# Altium footprint library Cypss5131_CY4603.PcbLib: 41 footprints (part 3 of 3)
Each footprint in its own frame and in the unit in brackets; x right, y up, seen from the top. Pads: shape width x height; smd on the part's side, far side on the other; paste and mask are expansions set on the pad; w line width, h text height; cw(c..) or ccw(c..) is an arc to the next point about the centre after c.
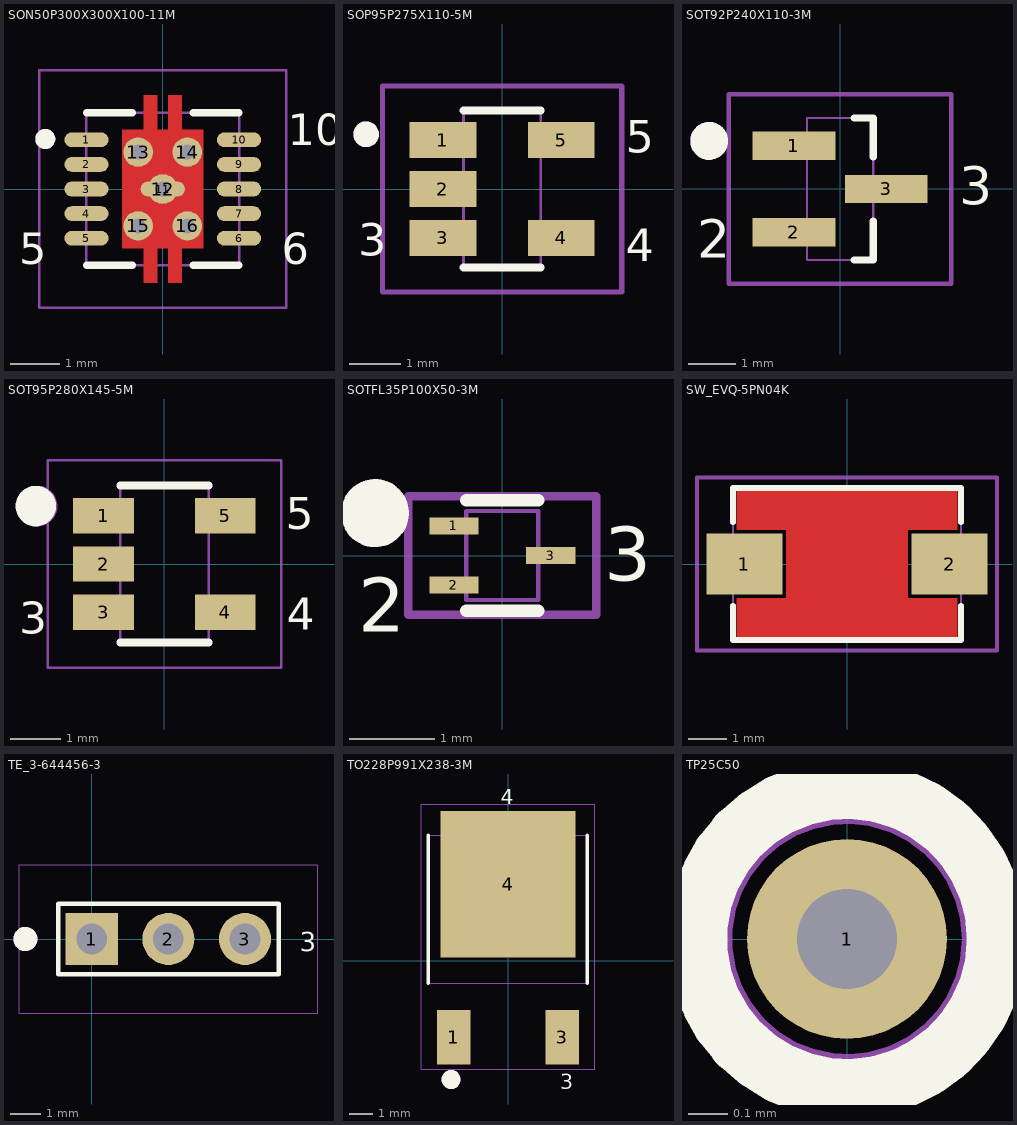
[diagram p2: the footprints below, top view; thin cyan lines are the x and y axes]

## SON50P300X300X100-11M [mm]
height 1
pads (16):
  oval 0.9x0.3 smd mask+0: 1(-1.55,1) 2(-1.55,0.5) 3(-1.55,0) 4(-1.55,-0.5) 5(-1.55,-1) 6(1.55,-1) 7(1.55,-0.5) 8(1.55,0) 9(1.55,0.5) 10(1.55,1) 11(0,0)
  round 0.6 hole 0.3 mask+0: 12(0,0) 13(-0.5,0.75) 14(0.5,0.75) 15(-0.5,-0.75) 16(0.5,-0.75)
Top Layer:
  region: 0.825,-1.2 0.825,1.2 0.39,1.2 0.39,1.9 0.11,1.9 0.11,1.2 -0.11,1.2 -0.11,1.9 -0.39,1.9 -0.39,1.2 -0.825,1.2 -0.825,-1.2 -0.39,-1.2 -0.39,-1.9 -0.11,-1.9 -0.11,-1.2 0.11,-1.2 0.11,-1.9 0.39,-1.9 0.39,-1.2
Top Overlay:
  circle w0.203: c-2.388,1.016 r0.102
  lines w0.15: -1.55,-1.55 -0.615,-1.55 ; -1.55,1.55 -0.615,1.55 ; 0.615,-1.55 1.55,-1.55 ; 0.615,1.55 1.55,1.55
  text "10" at 2.54,0.889 h0.64
  text "6" at 2.413,-1.524 h0.64
  text "5" at -2.921,-1.524 h0.64
Top Paste:
  region: -0.11,0.11 -0.79,0.11 -0.79,1.16 -0.11,1.16
  region: 0.79,0.11 0.11,0.11 0.11,1.16 0.79,1.16
  region: -0.11,-1.16 -0.79,-1.16 -0.79,-0.11 -0.11,-0.11
  region: 0.79,-1.16 0.11,-1.16 0.11,-0.11 0.79,-0.11
  region: 0.12,-1.88 0.38,-1.88 0.38,-1.38 0.12,-1.38
  region: -0.38,-1.88 -0.12,-1.88 -0.12,-1.38 -0.38,-1.38
  region: -0.38,1.38 -0.12,1.38 -0.12,1.88 -0.38,1.88
  region: 0.12,1.38 0.38,1.38 0.38,1.88 0.12,1.88
  region: 0.825,-1.2 0.825,1.2 0.39,1.2 0.39,1.9 0.11,1.9 0.11,1.2 -0.11,1.2 -0.11,1.9 -0.39,1.9 -0.39,1.2 -0.825,1.2 -0.825,-1.2 -0.39,-1.2 -0.39,-1.9 -0.11,-1.9 -0.11,-1.2 0.11,-1.2 0.11,-1.9 0.39,-1.9 0.39,-1.2
Top Solder:
  region: 0.825,-1.2 0.825,1.2 0.39,1.2 0.39,1.9 0.11,1.9 0.11,1.2 -0.11,1.2 -0.11,1.9 -0.39,1.9 -0.39,1.2 -0.825,1.2 -0.825,-1.2 -0.39,-1.2 -0.39,-1.9 -0.11,-1.9 -0.11,-1.2 0.11,-1.2 0.11,-1.9 0.39,-1.9 0.39,-1.2
Mechanical 13:
  circle w0.203: c-2.388,1.016 r0.102
  lines w0.05: -1.55,-1.55 -1.55,1.55 1.55,1.55 1.55,-1.55 -1.55,-1.55
Mechanical 14:
  text "VIA60-30-85" at -3.077,-5.298 h0.64
  text "SON50P300X300X100-11M" at -5.625,2.95 h0.64
  text "B90_30" at -1.419,-3.268 h0.64
  text "U165_380" at -1.934,-4.282 h0.64
Mechanical 15:
  lines w0.051: -2.51,-2.41 -2.51,2.41 2.51,2.41 2.51,-2.41 -2.51,-2.41
3D body: height 1, standoff 0, extent -1.549,-1.549 1.549,1.549

## SOP95P275X110-5M [mm] "SOT23, 5-Leads, Body 3.0x3.0mm (max), Pitch 0.95mm, IPC Low Density"
height 1.1
pads (5):
  rect 1.3x0.7 smd mask+0: 1(-1.15,0.95) 2(-1.15,0) 3(-1.15,-0.95) 4(1.15,-0.95) 5(1.15,0.95)
Top Overlay:
  circle w0.25: c-2.641,1.062 r0.125
  lines w0.15: -0.75,-1.525 0.75,-1.525 ; -0.75,1.525 0.75,1.525
  text "5" at 2.4,0.7 h0.63
  text "4" at 2.4,-1.4 h0.63
  text "3" at -2.8,-1.3 h0.63
  text ".Designator" at -4.374,2.471 h0.8
Mechanical 13:
  circle w0.25: c-2.641,1.062 r0.125
  lines w0.05: -0.75,-1.5 0.75,-1.5 0.75,1.5 -0.75,1.5 -0.75,-1.5
  text ".Designator" at -4.374,-0.183 h0.8
Mechanical 14:
  text "R130_70" at -2.653,-3.368 h0.8
  text "SOP95P275X110-5M" at -6.246,3.825 h0.8
Mechanical 15:
  lines w0.1: -2.325,-2 2.325,-2 2.325,2 -2.325,2 -2.325,-2
3D body: height 1.1, standoff 0.01, extent -0.75,-1.5 0.75,1.5

## SOT92P240X110-3M [mm] "SOT23, 3-Leads, Body 3.0x2.5mm (max), Pitch 0.92mm, IPC Low Density"
height 1.1
pads (3):
  rect 1.75x0.6 smd mask+0: 1(-0.975,0.915) 2(-0.975,-0.915) 3(0.975,0)
Top Overlay:
  circle w0.4: c-2.765,1.016 r0.2
  lines w0.152: 0.3,-1.5 0.7,-1.5 0.7,-0.676 ; 0.3,1.5 0.7,1.5 0.7,0.676
  text ".Designator" at -3.106,2.464 h0.64
  text "2" at -3.023,-1.448 h0.8
  text "3" at 2.515,-0.33 h0.8
Mechanical 13:
  circle w0.4: c-2.765,1.016 r0.2
  lines w0.05: -0.7,-1.5 0.7,-1.5 0.7,1.5 -0.7,1.5 -0.7,-1.5
  text ".Designator" at -3.547,-0.134 h0.64
Mechanical 14:
  text "R60_175" at -2.572,-4.08 h0.64
  text "SOT92P240X110-3M" at -5.791,4.166 h0.8
Mechanical 15:
  lines w0.1: -2.35,-2 2.35,-2 2.35,2 -2.35,2 -2.35,-2
3D body: height 1.1, standoff 0.1, extent -0.7,-1.5 0.7,1.5

## SOT95P280X145-5M [mm] "SOT23, 5-Leads, Body 3.1x2.8mm (max), Pitch 0.95mm, IPC Low Density"
height 1.45
pads (5):
  rect 1.2x0.7 smd mask+0: 1(-1.2,0.95) 2(-1.2,0) 3(-1.2,-0.95) 4(1.2,-0.95) 5(1.2,0.95)
Top Overlay:
  circle w0.4: c-2.537,1.143 r0.2
  lines w0.152: -0.875,-1.55 0.875,-1.55 ; -0.875,1.55 0.875,1.55
  text "5" at 2.388,0.686 h0.64
  text "4" at 2.413,-1.295 h0.64
  text "3" at -2.87,-1.372 h0.64
  text ".Designator" at -2.979,2.54 h0.64
Mechanical 13:
  lines w0.05: -0.875,-1.55 0.875,-1.55 0.875,1.55 -0.875,1.55 -0.875,-1.55
  lines w0.4: -2.311,1.143 cw(c-2.511,1.143) -2.312,1.154
  text ".Designator" at -3.191,-0.261 h0.64
Mechanical 14:
  text "R70_120" at -1.981,-3.353 h0.64
  text "SOT95P280X145-5M" at -6.02,3.988 h0.8
Mechanical 15:
  lines w0.05: -2.3,-2.05 2.3,-2.05 2.3,2.05 -2.3,2.05 -2.3,-2.05
3D body: height 1.45, standoff 0.15, extent -0.875,-1.55 0.875,1.55

## SOTFL35P100X50-3M [mm]
height 0.5
pads (3):
  rect 0.58x0.2 smd mask+0: 1(-0.57,0.35) 2(-0.57,-0.35) 3(0.57,0)
Top Overlay:
  circle w0.4: c-1.5,0.5 r0.2
  lines w0.15: -0.425,-0.65 0.425,-0.65 ; -0.425,0.65 0.425,0.65
  text "3" at 1.2,-0.3 h0.64
  text "2" at -1.7,-0.9 h0.64
  text ".Designator" at -4.013,1.196 h0.8
Mechanical 13:
  circle w0.4: c-1.5,0.5 r0.2
  lines w0.05: -0.425,-0.525 -0.425,0.525 0.425,0.525 0.425,-0.525 -0.425,-0.525
  text ".Designator" at -4,-0.4 h0.8
Mechanical 14:
  text "R58_20" at -2.667,-1.956 h0.8
  text "SOTFL35P100X50-3M" at -6.8,2.2 h0.8
Mechanical 15:
  lines w0.1: -1.11,-0.7 -1.11,0.7 1.11,0.7 1.11,-0.7 -1.11,-0.7
3D body: height 0.5, standoff 0, extent -0.45,-0.55 0.45,0.55

## SW_EVQ-5PN04K [mm]
height 4.3
pads (2):
  rect 2x1.6 smd mask+0: 1(-2.7,0) 2(2.7,0)
Top Layer:
  region: -2.9,2 -2.9,0.9 -1.6,0.9 -1.6,-0.9 -2.9,-0.9 -2.9,-2 2.9,-2 2.9,-0.9 1.6,-0.9 1.6,0.9 2.9,0.9 2.9,2
Top Overlay:
  lines w0.15: -3,-1.1 -3,-2 3,-2 3,-1.1 ; -3,1.1 -3,2 3,2 3,1.1
  text ".Designator" at -3.957,2.767 h0.8
Mechanical 13:
  lines w0.05: -3,-2 -3,2 3,2 3,-2 -3,-2
  text ".Designator" at -3.706,-0.27 h0.8
Mechanical 14:
  text "SW_EVQ-5PN04K" at -4.7,4.125 h0.8
  text "R200_160" at -3.025,-3.4 h0.8
Mechanical 15:
  lines w0.1: -3.95,-2.275 3.95,-2.275 3.95,2.275 -3.95,2.275 -3.95,-2.275
3D body: height 4.3, standoff 0, extent -2.999,-1.999 2.999,1.999

## TE_3-644456-3 [mil]
height 405
pads (3):
  rect 68x68 / inner round 68 / far side rect 68x68 hole 40 mask+0: 1(0,0)
  round 68 hole 40 mask+0: 2(100,0) 3(200,0)
Top Overlay:
  circle w15.75: c-86.61,0 r7.87
  lines w6: -44,-46 -44,46 244,46 244,-46 -44,-46
  text ".Designator" at -53.61,119.3 h31.5
  text "3" at 271.65,-15.75 h25
Mechanical 13:
  circle w15.75: c-86.61,0 r7.87
  lines w2: -44,-46 244,-46 244,46 -44,46 -44,-46
  text ".Designator" at -58.55,-3.31 h31.5
Mechanical 14:
  text "C172H102" at 7.7,-146.12 h31.5
  text "TE_3-644456-3" at -97.78,172.86 h31.5
  text "S172H102" at 7.7,-194.12 h31.5
Mechanical 15:
  lines w1: -95,-97 -95,97 295,97 295,-97 -95,-97
3D body: height 405, standoff 0, extent -45,-47 245,47

## TO228P991X238-3M [mil]
height 94
pads (3):
  rect 55x90 smd mask+0: 1(-90,-126.75) 3(90,-126.75)
  rect 224x243 smd mask+0: 4(0,126.75)
Top Overlay:
  circle w15.75: c-94.49,-196.85 r7.87
  lines w6: -132.5,-37.13 -132.5,207.87 ; 131.5,-37.13 131.5,207.87
  text "4" at -11.81,259.84 h25
  text "3" at 86.61,-212.6 h25
  text ".Designator" at -153.65,288.66 h31.5
Mechanical 13:
  circle w15.75: c-94.49,-196.85 r7.87
  lines w2: -132.5,-37.13 132.5,-37.13 132.5,207.87 -132.5,207.87 -132.5,-37.13
  text ".Designator" at -163.96,47.4 h31.5
Mechanical 14:
  text "TO228P991X238-3M" at -242.46,335.45 h31.5
  text "R139_228" at -110.24,-326.77 h31.5
  text "R569_618" at -114.42,-270.99 h31.5
Mechanical 15:
  lines w1: -143.5,-180.13 -143.5,259.87 143.5,259.87 143.5,-180.13 -143.5,-180.13
3D body: height 94, standoff 0, extent -133.5,-38.13 133.5,208.87

## TP25C50 [mil]
height 94
pads (1):
  round 20 hole 10 mask+0: 1(0,0)
Top Overlay:
  circle w6: c0,0 r15
  text ".Designator" at -122.05,31.5 h25
Mechanical 13:
  circle w2: c0,0 r12.5
  text ".Designator" at -125.98,-39.37 h25
Mechanical 14:
  text "TP25C50" at -82.68,66.93 h25